# Altium footprint library 169.PcbLib: 1 footprints
Each footprint in its own frame and in the unit in brackets; x right, y up, seen from the top. Pads: shape width x height; smd on the part's side, far side on the other; paste and mask are expansions set on the pad; w line width, h text height; cw(c..) or ccw(c..) is an arc to the next point about the centre after c.
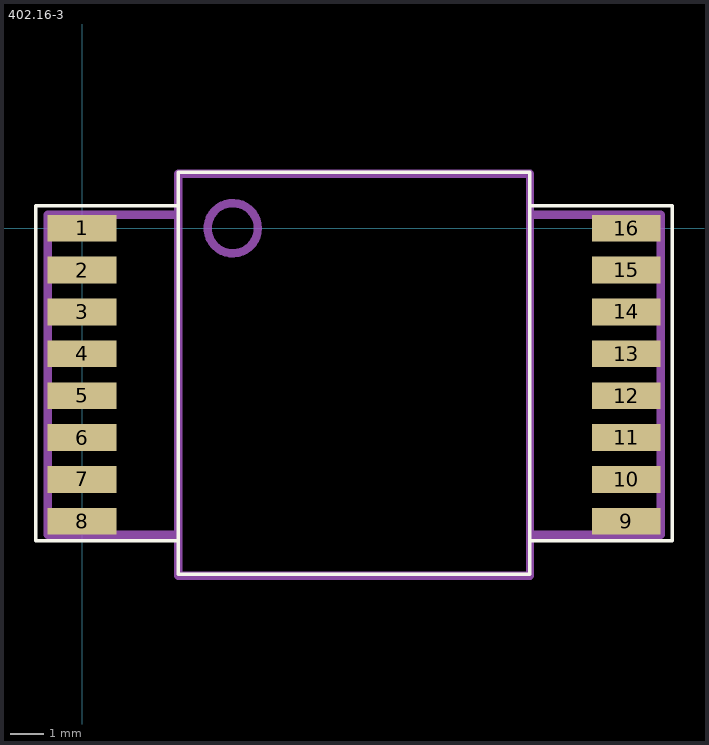
[diagram p0: the footprint, top view; thin cyan lines are the x and y axes]

## 402.16-3 [mm]
pads (16):
  rect 2.05x0.8 smd: 1(0,0) 2(0,-1.25) 3(0,-2.5) 4(0,-3.75) 5(0,-5) 6(0,-6.25) 7(0,-7.5) 8(0,-8.75) 9(16.25,-8.75) 10(16.25,-7.5) 11(16.25,-6.25) 12(16.25,-5) 13(16.25,-3.75) 14(16.25,-2.5) 15(16.25,-1.25) 16(16.25,0)
Top Overlay:
  lines w0.1: 2.87,-9.33 -1.38,-9.33 -1.38,0.67 2.87,0.67 ; 13.37,-9.33 17.62,-9.33 17.62,0.67 13.37,0.67 ; 2.87,-10.33 13.37,-10.33 13.37,1.67 2.87,1.67 2.87,-10.33
Mechanical 1:
  circle w0.25: c4.5,0 r0.75
  lines w0.25: 2.85,-9.15 1.025,-9.15 -1.025,-9.15 -1.025,0.4 2.875,0.4 ; 13.375,-9.15 15.225,-9.15 17.275,-9.15 17.275,0.4 13.375,0.4 ; 2.875,-10.375 13.375,-10.375 13.375,1.625 2.875,1.625 2.875,-10.375